# EAGLE library part NODEMCUESP8266 (library NODEMCU)
Node Mcu esp8266 12E LIBRARY BY SDTECH ROBOTICS (Shubham Devkar Technology Solutions)
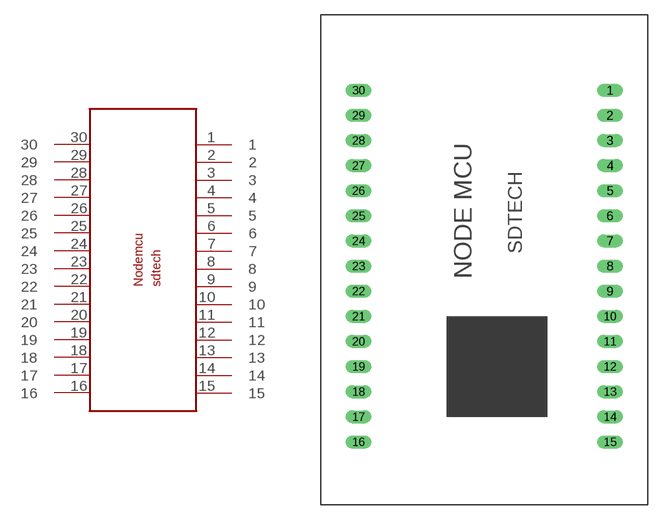
[diagram p0: symbol with the pads of NODEMCUESP8266; footprint NODEMCUESP8266]

Designator prefix -

## NODEMCUESP8266  [NODEMCUESP8266]
1  1
2  2
3  3
4  4
5  5
6  6
7  7
8  8
9  9
10  10
11  11
12  12
13  13
14  14
15  15
16  16
17  17
18  18
19  19
20  20
21  21
22  22
23  23
24  24
25  25
26  26
27  27
28  28
29  29
30  30

## Footprint NODEMCUESP8266 (pad centres in mm)
Node Mcu esp8266 12E LIBRARY BY SDTECH ROBOTICS (Shubham Devkar Technology Solutions)
drill 0.8 long: 1 15.24,15.24; 2 15.24,12.7; 3 15.24,10.16; 4 15.24,7.62; 5 15.24,5.08; 6 15.24,2.54; 7 15.24,0; 8 15.24,-2.54; 9 15.24,-5.08; 10 15.24,-7.62; 11 15.24,-10.16; 12 15.24,-12.7; 13 15.24,-15.24; 14 15.24,-17.78; 15 15.24,-20.32; 16 -10.16,-20.32; 17 -10.16,-17.78; 18 -10.16,-15.24; 19 -10.16,-12.7; 20 -10.16,-10.16; 21 -10.16,-7.62; 22 -10.16,-5.08; 23 -10.16,-2.54; 24 -10.16,0; 25 -10.16,2.54; 26 -10.16,5.08; 27 -10.16,7.62; 28 -10.16,10.16; 29 -10.16,12.7; 30 -10.16,15.24